# EAGLE library part 2170668-1 (library CONNECTORs)
Jack Modular Connector 8p8c (RJ45, Ethernet) 45° Angle Shielded Cat6
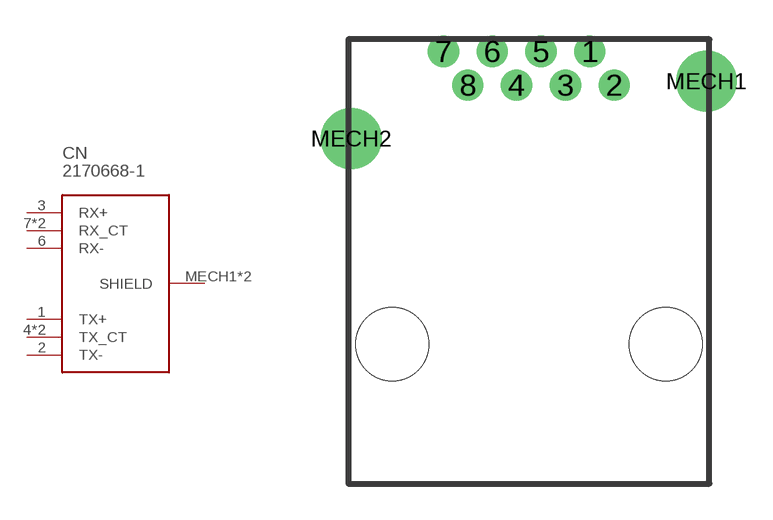
[diagram p31: symbol with the pads of A121933-ND; footprint A121933-ND]

Designator prefix CN

## 2170668-1 (DIGIKEY: A121933-ND; PRICE_PER: 5.88; VALUE: RJ45 45°)  [A121933-ND]
1  TX+
2  TX-
3  RX+
4  TX_CT
5  TX_CT
6  RX-
7  RX_CT
8  RX_CT
MECH1  SHIELD
MECH2  SHIELD

## Footprint A121933-ND (pad centres in mm)
drill 0.8: 1 2.545,8.79; 2 3.565,7.38; 3 1.525,7.38; 4 -0.515,7.38; 5 0.505,8.79; 6 -1.535,8.79; 7 -3.575,8.79; 8 -2.555,7.38
drill 1.7: MECH1 7.425,7.54; MECH2 -7.425,5.14
hole 3.05 at 5.715,-3.46
hole 3.05 at -5.715,-3.46